# Altium footprint library CONTROLLER-2_BRD2.PcbLib: 38 footprints (part 2 of 3)
Each footprint in its own frame and in the unit in brackets; x right, y up, seen from the top. Pads: shape width x height; smd on the part's side, far side on the other; paste and mask are expansions set on the pad; w line width, h text height; cw(c..) or ccw(c..) is an arc to the next point about the centre after c.
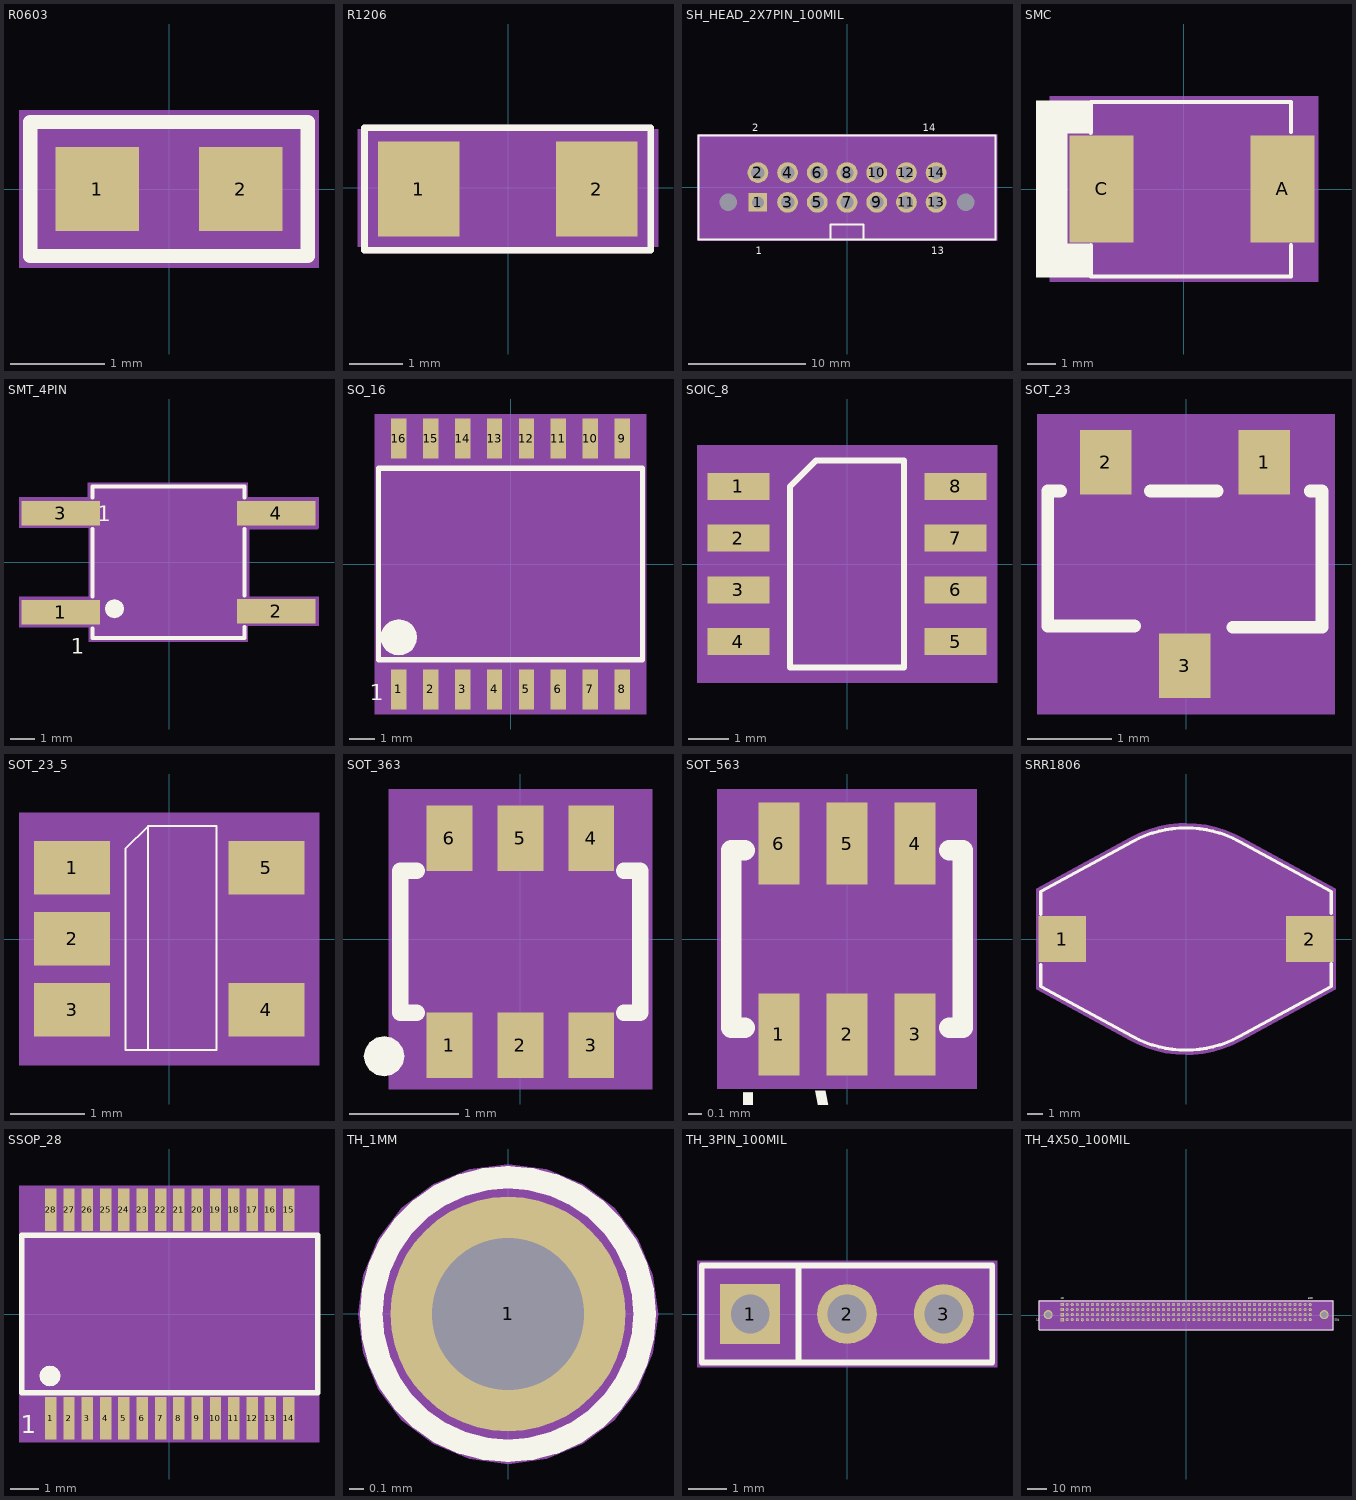
[diagram p1: the footprints below, top view; thin cyan lines are the x and y axes]

## R0603 [mil] "R0603"
pads (2):
  rect 35x35 smd: 1(-30,0) 2(30,0)
Top Overlay:
  lines w6: -58,-28 -58,28 58,28 58,-28 -58,-28
  text ".Designator" at 58,75.33 h25
Mechanical 7:
  region: -62.75,33 -62.75,-33 62.75,-33 62.75,33
Mechanical 15:
  text "2" at 40,0 h25
  text "1" at -20,0 h25
Mechanical 16:
  lines w1: -59,-29 59,-29 59,29 -59,29 -59,-29
3D body: height 150, standoff 0, extent -62.75,-33 62.75,33

## R1206 [mil] "R1206"
pads (2):
  rect 60x70 smd: 1(-65.55,-0.75) 2(65.05,-0.75)
Top Overlay:
  lines w5: -105.25,-45.75 104.75,-45.75 104.75,44.25 -105.25,44.25 -105.25,-45.75
Mechanical 7:
  region: -110.05,-43.25 110.05,-43.25 110.05,43.25 -110.05,43.25
Mechanical 15:
  text "1" at -65.55,9.25 h25
  text "2" at 65.05,9.25 h25
Mechanical 16:
  lines w5: -105.25,-45.75 104.75,-45.75 104.75,44.25 -105.25,44.25 -105.25,-45.75
  text ".Designator" at -31.05,-15.75 h25
3D body: height 150, standoff 0, extent -110.05,-43.25 110.05,43.25

## SH_HEAD_2X7PIN_100MIL [mil] "SH_HEAD_2X7PIN_100MIL"
pads (16):
  rect 62x62 / inner round 62 / far side rect 62x62 hole 40: 1(-300,-50)
  round 70 hole 45: 2(-300,50) 3(-200,-50) 4(-200,50) 5(-100,-50) 6(-100,50) 7(0,-50) 8(0,50) 9(100,-50) 10(100,50) 11(200,-50) 12(200,50) 13(300,-50) 14(300,50)
  round 55 hole 60 unplated: ""(-400,-50) ""(400,-50)
Top Overlay:
  lines w7: -55,-175 -55,-125 55,-125 55,-175 ; -500,-175 500,-175 500,175 -500,175 -500,-175
  text ".Designator" at -72.5,204.67 h25
  text "1" at -306.5,-225.33 h25
  text "2" at -319,190 h25
  text "13" at 283,-225.33 h25
  text "14" at 255.5,190 h25
Mechanical 7:
  region: -505,180 -505,-180 505,-180 505,180
Mechanical 15:
  text "9" at 84,-50 h25
  text "11" at 168,-50 h25
  text "5" at -116,-50 h25
  text "7" at -16,-50 h25
  text "3" at -216,-50 h25
  text "10" at 68,50 h25
  text "6" at -116,50 h25
  text "8" at -16,50 h25
  text "2" at -316,50 h25
  text "4" at -216,50 h25
  text "14" at 268,50 h25
  text "1" at -316,-50 h25
  text "12" at 168,50 h25
  text "13" at 268,-50 h25
Mechanical 16:
  lines w1: -500,-175 500,-175 500,175 -500,175 -500,-175 ; -55,-175 55,-175 55,-125 -55,-125 -55,-175
3D body: height 150, standoff 0, extent -505,-180 505,180

## SMC [mil] "SMC"
pads (2):
  rect 90x150 smd: A(138.5,0.05) C(-115.5,0.05)
Top Overlay:
  dashed: -129.5,124.05 -207.5,124.05 -207.5,-123.95 -130.5,-123.95 -130.5,-76.95 -163.5,-76.95 -163.5,78.05 -129.5,78.05
  lines w6: -130.5,-78.95 -130.5,-122.95 150.5,-122.95 150.5,-78.95 ; -130.5,79.05 -130.5,122.05 150.5,122.05 150.5,80.05
Mechanical 7:
  region: -188.5,130.35 188.5,130.35 188.5,-130.35 -188.5,-130.35
Mechanical 15:
  text "C" at -125.5,0.05 h25
  text "A" at 128.5,0.05 h25
Mechanical 16:
  dashed: -130.5,123.05 -130.5,-122.95 -178.5,-122.95 -178.5,123.05
  lines w1: -130,-123.95 151,-123.95 151,122.05 -130,122.05 -130,-123.95
  text ".Designator" at -7,-24.55 h25
3D body: height 150, standoff 0, extent -188.5,-130.35 188.5,130.35

## SMT_4PIN [mm] "SMT_4PIN"
pads (4):
  rect 3.2x1 smd: 1(-4.425,-2.05) 2(4.375,-2) 3(-4.425,2) 4(4.375,2)
Top Overlay:
  dashed: -1.84,-1.9 -1.869,-1.753 -1.953,-1.628 -2.078,-1.544 -2.225,-1.515 -2.372,-1.544 -2.414,-1.572 -2.497,-1.628 -2.581,-1.753 -2.61,-1.9 -2.581,-2.047 -2.497,-2.172 -2.414,-2.228 -2.372,-2.256 -2.225,-2.285 -2.078,-2.256 -1.953,-2.172 -1.869,-2.047
  lines w0.16: -3.125,-2.7 -3.125,-3.1 3.075,-3.1 3.075,-2.65 ; -3.125,-1.4 -3.125,1.35 ; -3.125,2.65 -3.125,3.1 3.075,3.1 3.075,2.65 ; 3.075,-1.35 3.075,1.35
  text "1" at -2.928,1.683 h0.64
  text "1" at -4.017,-3.744 h0.64
Mechanical 7:
  region: 6.125,-2.6 6.125,-1.4 3.325,-1.4 3.275,-1.4 3.275,-1.35 3.275,1.35 6.075,1.35 6.125,1.4 6.125,2.65 3.225,2.65 3.225,3.25 -3.325,3.25 -3.325,2.65 -6.125,2.65 -6.125,1.4 -3.275,1.4 -3.275,-1.4 -6.125,-1.4 -6.125,-2.65 -3.275,-2.65 -3.275,-3.25 3.225,-3.25 3.225,-2.6
Mechanical 15:
  text "2" at 4.121,-2 h0.64
  text "1" at -4.679,-2.05 h0.64
  text "4" at 4.121,2 h0.64
  text "3" at -4.679,2 h0.64
Mechanical 16:
  dashed: -1.923,-1.9 -1.946,-1.784 -2.011,-1.686 -2.109,-1.621 -2.225,-1.598 -2.341,-1.621 -2.373,-1.643 -2.439,-1.686 -2.504,-1.784 -2.527,-1.9 -2.504,-2.016 -2.439,-2.114 -2.373,-2.157 -2.341,-2.179 -2.225,-2.202 -2.109,-2.179 -2.011,-2.114 -1.946,-2.016
  lines w0.025: -3.125,-3.1 3.075,-3.1 3.075,3.1 -3.125,3.1 -3.125,-3.1
  text ".Designator" at -1.143,-0.516 h0.64
  text "1" at -5.257,-2.167 h0.64
3D body: height 3.81, standoff 0, extent -6.125,-3.25 6.125,3.25

## SO_16 [mil] "SO_16"
pads (16):
  rect 24x63 smd: 1(-175,-196.5) 2(-125,-196.5) 3(-75,-196.5) 4(-25,-196.5) 5(25,-196.5) 6(75,-196.5) 7(125,-196.5) 8(175,-196.5) 9(175,196.5) 10(125,196.5) 11(75,196.5) 12(25,196.5) 13(-25,196.5) 14(-75,196.5) 15(-125,196.5) 16(-175,196.5)
Top Overlay:
  dashed: -146.87,-115 -147.83,-107.72 -150.64,-100.93 -155.11,-95.11 -160.93,-90.64 -167.72,-87.83 -175,-86.87 -182.28,-87.83 -189.07,-90.64 -194.89,-95.11 -199.36,-100.93 -202.17,-107.72 -203.13,-115 -202.17,-122.28 -199.36,-129.07 -194.89,-134.89 -189.07,-139.36 -182.28,-142.17 -175,-143.13 -167.72,-142.17 -160.93,-139.36 -155.11,-134.89 -150.64,-129.07 -147.83,-122.28
  lines w8: -207,-150 207,-150 207,150 -207,150 -207,-150
  text "1" at -220.4,-213.5 h25
Mechanical 7:
  region: -212.5,-235 -212.5,235 212.5,235 212.5,-235
Mechanical 15:
  text "3" at -85,-196.5 h25
  text "2" at -135,-196.5 h25
  text "1" at -185,-196.5 h25
  text "10" at 105,196.5 h25
  text "5" at 15,-196.5 h25
  text "6" at 65,-196.5 h25
  text "11" at 55,196.5 h25
  text "7" at 115,-196.5 h25
  text "9" at 165,196.5 h25
  text "4" at -35,-196.5 h25
  text "12" at 5,196.5 h25
  text "8" at 165,-196.5 h25
  text "16" at -195,196.5 h25
  text "15" at -145,196.5 h25
  text "14" at -95,196.5 h25
  text "13" at -45,196.5 h25
Mechanical 16:
  dashed: -152.37,-116 -154.09,-107.34 -158.99,-99.99 -166.34,-95.09 -175,-93.37 -183.66,-95.09 -186.12,-96.73 -191.01,-99.99 -195.91,-107.34 -197.63,-116 -195.91,-124.66 -191.01,-132.01 -186.12,-135.27 -183.66,-136.91 -175,-138.63 -166.34,-136.91 -158.99,-132.01 -154.09,-124.66
  lines w1: -207,-150 207,-150 207,150 -207,150 -207,-150
  text ".Designator" at -60,-19.67 h25
3D body: height 150, standoff 0, extent -212.5,-235 212.5,235

## SOIC_8 [mil] "SOIC_8"
pads (8):
  rect 60x26 smd: 1(-105,75) 2(-105,25) 3(-105,-25) 4(-105,-75) 5(105,-75) 6(105,-25) 7(105,25) 8(105,75)
Top Overlay:
  lines w6: -55,-100 -55,75 -30,100 55,100 55,-100 -55,-100
Mechanical 7:
  region: -145,115 -145,-115 145,-115 145,115
Mechanical 15:
  text "5" at 95,-75 h25
  text "2" at -115,25 h25
  text "3" at -115,-25 h25
  text "7" at 95,25 h25
  text "1" at -115,75 h25
  text "6" at 95,-25 h25
  text "4" at -115,-75 h25
  text "8" at 95,75 h25
Mechanical 16:
  lines w1: -55,-100 55,-100 55,100 -30,100 -55,75 -55,-100
  text ".Designator" at 25,-55 h25
3D body: height 150, standoff 0, extent -145,-115 145,115

## SOT_23 [mil] "SOT_23"
pads (3):
  rect 24x30 smd: 1(36.5,47.5) 2(-37.5,47.5) 3(-0.5,-47.5)
Top Overlay:
  lines w6: -58.5,34 -64.5,34 -64.5,-29 -24,-29 ; -16.5,34 14.5,34 ; 22,-29.5 63.5,-29.5 63.5,34 58,34
Mechanical 7:
  region: -69.5,-70 -69.5,70 69.5,70 69.5,-70
Mechanical 15:
  text "2" at -49.9,47.5 h25
  text "1" at 24.1,47.5 h25
  text "3" at -12.9,-47.5 h25
Mechanical 16:
  lines w1: -60.5,-21.5 59.5,-21.5 59.5,21.5 -60.5,21.5 -60.5,20 -60.5,-21.5
  text ".Designator" at -45,-16.7 h25
3D body: height 150, standoff 0, extent -69.5,-70 69.5,70

## SOT_23_5 [mil] "SOT_23_5"
pads (5):
  rect 40x28 smd: 1(-51,37.5) 2(-51,0.1) 3(-51,-37.3) 4(51.3,-37.3) 5(51.3,37.5)
Top Overlay:
  lines w1: -11,-58.5 -11,59.5 ; -11,59.5 -23,47.5 -23,-58.5 25,-58.5 25,59.5 -11,59.5
Mechanical 7:
  region: -79,66.5 -79,-66.5 79,-66.5 79,66.5
Mechanical 15:
  text "1" at -41,37.5 h25
  text "4" at 61.3,-37.3 h25
  text "2" at -41,0.1 h25
  text "5" at 61.3,37.5 h25
  text "3" at -41,-37.3 h25
Mechanical 16:
  lines w1: -23,-58.5 -23,46.5 -23,47.5 -11,59.5 25,59.5 25,-58.5 -23,-58.5
  text ".Designator" at -11.33,36.5 h25
3D body: height 150, standoff 0, extent -79,-66.5 79,66.5

## SOT_363 [mm] "SOT_363"
pads (6):
  rect 0.42x0.6 smd: 1(-0.65,-0.975) 2(0,-0.975) 3(0.65,-0.975) 4(0.65,0.925) 5(0,0.925) 6(-0.65,0.925)
Top Overlay:
  dashed: -1.066,-1.075 -1.08,-1.005 -1.12,-0.945 -1.18,-0.905 -1.25,-0.891 -1.32,-0.905 -1.34,-0.919 -1.38,-0.945 -1.42,-1.005 -1.434,-1.075 -1.42,-1.145 -1.38,-1.205 -1.34,-1.231 -1.32,-1.245 -1.25,-1.259 -1.18,-1.245 -1.12,-1.205 -1.08,-1.145
  lines w0.15: -0.95,-0.675 -1.1,-0.675 -1.1,0.625 -0.95,0.625 ; 0.95,-0.675 1.1,-0.675 1.1,0.625 0.95,0.625
Mechanical 7:
  region: 1.206,-1.375 1.206,1.375 -1.206,1.375 -1.206,-1.375
Mechanical 15:
  text "6" at -0.833,0.925 h0.64
  text "3" at 0.467,-0.975 h0.64
  text "5" at -0.183,0.925 h0.64
  text "2" at -0.183,-0.975 h0.64
  text "1" at -0.833,-0.975 h0.64
  text "4" at 0.467,0.925 h0.64
Mechanical 16:
  dashed: -0.446,-0.375 -0.462,-0.297 -0.506,-0.231 -0.572,-0.187 -0.65,-0.171 -0.728,-0.187 -0.75,-0.201 -0.794,-0.231 -0.838,-0.297 -0.854,-0.375 -0.838,-0.453 -0.794,-0.519 -0.75,-0.549 -0.728,-0.563 -0.65,-0.579 -0.572,-0.563 -0.506,-0.519 -0.462,-0.453
  lines w0.025: -1.075,-0.675 1.075,-0.675 1.075,0.625 -1.075,0.625 -1.075,-0.675
  text ".Designator" at -0.68,-0.309 h0.64
3D body: height 3.81, standoff 0, extent -1.206,-1.375 1.206,1.375

## SOT_563 [mm] "SOT_563"
pads (6):
  rect 0.3x0.6 smd: 1(-0.5,-0.7) 2(0,-0.7) 3(0.5,-0.7) 4(0.5,0.7) 5(0,0.7) 6(-0.5,0.7)
Top Overlay:
  lines w0.15: -0.75,-0.65 -0.85,-0.65 -0.85,0.65 -0.75,0.65 ; 0.75,-0.65 0.85,-0.65 0.85,0.65 0.75,0.65
  text "1" at -0.762,-1.016 h0.64
  text ".Designator" at -1.714,1.516 h0.64
Mechanical 7:
  region: 0.95,-1.1 0.95,1.1 -0.95,1.1 -0.95,-1.1
Mechanical 15:
  text "1" at -0.5,-0.517 h0.64
  text "4" at 0.5,0.883 h0.64
  text "5" at 0,0.883 h0.64
  text "3" at 0.5,-0.517 h0.64
  text "6" at -0.5,0.883 h0.64
  text "2" at 0,-0.517 h0.64
Mechanical 16:
  dashed: -0.5,-0.604 -0.422,-0.588 -0.356,-0.544 -0.312,-0.478 -0.296,-0.4 -0.312,-0.322 -0.326,-0.3 -0.356,-0.256 -0.422,-0.212 -0.5,-0.196 -0.578,-0.212 -0.644,-0.256 -0.674,-0.3 -0.688,-0.322 -0.704,-0.4 -0.688,-0.478 -0.644,-0.544 -0.578,-0.588
  lines w0.025: -0.85,-0.65 0.85,-0.65 0.85,0.65 -0.85,0.65 -0.85,-0.65
3D body: height 3.81, standoff 0, extent -0.95,-1.1 0.95,1.1

## SRR1806 [mm] "SRR1806"
pads (2):
  rect 3x2.9 smd: 1(-7.8,0) 2(7.8,0)
Top Overlay:
  lines w0.2: -9.15,-1.6 -9.15,-3 -3.35,-6.15 ccw(c0,0.018) 3.35,-6.15 9.15,-3 9.15,-1.55 ; -9.15,1.55 -9.15,3 -3.35,6.15 cw(c0,-0.018) 3.35,6.15 9.15,3 9.15,1.6
  text ".Designator" at 10.16,1.016 h0.64
Mechanical 7:
  region: 0.051,-7.3 0,-7.3 -0.639,-7.272 -1.272,-7.189 -1.896,-7.05 -2.506,-6.858 -3.096,-6.614 -3.493,-6.414 -9.45,-3.179 -9.45,3.179 -3.493,6.414 -2.919,6.694 -2.323,6.922 -1.709,7.099 -1.083,7.22 -0.448,7.287 -0.121,7.3 0,7.3 0.639,7.272 1.272,7.189 1.896,7.05 2.506,6.858 3.096,6.614 3.493,6.414 9.45,3.179 9.45,-3.179 3.493,-6.414 2.92,-6.693 2.324,-6.922 1.711,-7.098 1.085,-7.22 0.451,-7.286
Mechanical 15:
  text "1" at -7.8,0.254 h0.64
  text "2" at 7.8,0.254 h0.64
Mechanical 16:
  lines w0.025: -9.15,-3 -9.15,3 -3.35,6.15 cw(c0,-0.018) -0.118,7 0,7 cw(c0,-0.026) 3.35,6.15 9.15,3 9.15,-3 3.35,-6.15 cw(c0.003,0.012) 0.05,-7 0,-7 cw(c0,0.026) -3.35,-6.15 -9.15,-3
3D body: height 3.81, standoff 0, extent -9.45,-7.3 9.45,7.3

## SSOP_28 [mil] "SSOP_28"
pads (28):
  rect 16x60 smd: 1(-165.35,-145.67) 2(-139.76,-145.67) 3(-114.18,-145.67) 4(-88.59,-145.67) 5(-63,-145.67) 6(-37.41,-145.67) 7(-11.81,-145.67) 8(13.78,-145.67) 9(39.37,-145.67) 10(64.96,-145.67) 11(90.56,-145.67) 12(116.14,-145.67) 13(141.73,-145.67) 14(167.32,-145.67) 15(167.32,145.67) 16(141.73,145.67) 17(116.14,145.67) 18(90.56,145.67) 19(64.96,145.67) 20(39.37,145.67) 21(13.78,145.67) 22(-11.81,145.67) 23(-37.41,145.67) 24(-63,145.67) 25(-88.59,145.67) 26(-114.18,145.67) 27(-139.76,145.67) 28(-165.35,145.67)
Top Overlay:
  dashed: -151.87,-86.62 -152.97,-81.08 -156.11,-76.38 -160.8,-73.24 -166.34,-72.14 -171.88,-73.24 -173.45,-74.3 -176.57,-76.38 -179.71,-81.08 -180.81,-86.62 -179.71,-92.15 -176.57,-96.85 -173.45,-98.93 -171.88,-99.99 -166.34,-101.09 -160.8,-99.99 -156.11,-96.85 -152.97,-92.15
  lines w7.87: -205.71,-110.24 207.68,-110.24 207.68,110.24 -205.71,110.24 -205.71,-110.24
  text "1" at -206.93,-166.67 h25
Mechanical 7:
  region: 209.65,-179.13 209.65,179.13 -209.65,179.13 -209.65,-179.13
Mechanical 15:
  text "17" at 100.14,145.67 h25
  text "18" at 74.56,145.67 h25
  text "10" at 48.96,-145.67 h25
  text "7" at -19.82,-145.67 h25
  text "3" at -122.18,-145.67 h25
  text "26" at -130.18,145.67 h25
  text "25" at -104.59,145.67 h25
  text "12" at 100.14,-145.67 h25
  text "4" at -96.59,-145.67 h25
  text "22" at -27.82,145.67 h25
  text "23" at -53.41,145.67 h25
  text "27" at -155.76,145.67 h25
  text "2" at -147.76,-145.67 h25
  text "6" at -45.41,-145.67 h25
  text "11" at 74.56,-145.67 h25
  text "13" at 125.73,-145.67 h25
  text "24" at -79,145.67 h25
  text "21" at -2.22,145.67 h25
  text "16" at 125.73,145.67 h25
  text "28" at -181.35,145.67 h25
  text "9" at 31.37,-145.67 h25
  text "5" at -71,-145.67 h25
  text "1" at -173.35,-145.67 h25
  text "8" at 5.78,-145.67 h25
  text "19" at 48.96,145.67 h25
  text "20" at 23.37,145.67 h25
  text "15" at 151.32,145.67 h25
  text "14" at 151.32,-145.67 h25
Mechanical 16:
  dashed: -153.65,-86.62 -154.61,-81.76 -157.36,-77.64 -161.48,-74.89 -166.34,-73.92 -171.2,-74.89 -172.58,-75.81 -175.32,-77.64 -178.07,-81.76 -179.04,-86.62 -178.07,-91.47 -175.32,-95.59 -172.58,-97.42 -171.2,-98.34 -166.34,-99.31 -161.48,-98.34 -157.36,-95.59 -154.61,-91.47
  lines w1: -205.71,-110.24 207.68,-110.24 207.68,110.24 -205.71,110.24 -205.71,-110.24
  text ".Designator" at -53.02,-20 h25
3D body: height 150, standoff 0, extent -209.65,-179.13 209.65,179.13

## TH_1MM [mil] "TH_1MM"
pads (1):
  round 62 hole 40: 1(0,0)
Top Overlay:
  lines w6: 36.05,0 ccw(c0,0) 36.05,0
  text ".Designator" at -117.5,29.67 h25
Mechanical 7:
  region: 39.54,0 38.2,10.23 34.25,19.77 27.96,27.96 19.77,34.25 10.23,38.2 0,39.54 -10.24,38.2 -19.77,34.25 -27.96,27.96 -34.25,19.77 -38.2,10.23 -39.54,0 -38.2,-10.23 -34.25,-19.77 -27.96,-27.96 -19.77,-34.25 -10.24,-38.2 0,-39.54 10.23,-38.2 19.77,-34.25 27.96,-27.96 34.25,-19.77 38.2,-10.23
Mechanical 15:
  text "1" at -10,0 h25
Mechanical 16:
  lines w1: 34.2,0 ccw(c0,0) 34.2,0
3D body: height 150, standoff 0, extent -39.54,-39.54 39.54,39.54

## TH_3PIN_100MIL [mil] "TH_3PIN_100MIL"
pads (3):
  rect 62x62 / inner round 62 / far side rect 62x62 hole 40: 1(-100,0)
  round 62 hole 40: 2(0,0) 3(100,0)
Top Overlay:
  lines w6: -50,-50 -50,50 ; -150,-50 150,-50 150,50 -150,50 -150,-50
  text ".Designator" at -60,75 h25
Mechanical 7:
  region: -155,55 -155,-55 155,-55 155,55
Mechanical 15:
  text "1" at -116,0 h25
  text "2" at -16,0 h25
  text "3" at 84,0 h25
Mechanical 16:
  lines w1: -50,-50 -50,50 ; -150,-50 150,-50 150,50 -150,50 -150,-50
3D body: height 150, standoff 0, extent -155,-55 155,55

## TH_4X50_100MIL [mil] "TH_4X50_100MIL"
pads (202):
  rect 65x65 hole 43: 1A(-2447.5,-90) 1B(-2447.5,10) 1C(-2447.5,110) 1D(-2447.5,210)
  round 60 hole 39: 2A(-2347.5,-90) 2B(-2347.5,10) 2C(-2347.5,110) 2D(-2347.5,210) 3A(-2247.5,-90) 3B(-2247.5,10) 3C(-2247.5,110) 3D(-2247.5,210) 4A(-2147.5,-90) 4B(-2147.5,10) 4C(-2147.5,110) 4D(-2147.5,210) 6A(-1947.5,-90) 6B(-1947.5,10) 6C(-1947.5,110) 6D(-1947.5,210) 7A(-1847.5,-90) 7B(-1847.5,10) 7C(-1847.5,110) 7D(-1847.5,210) 8A(-1747.5,-90) 8B(-1747.5,10) 8C(-1747.5,110) 8D(-1747.5,210) 9A(-1647.5,-90) 9B(-1647.5,10) 9C(-1647.5,110) 9D(-1647.5,210) 10A(-1547.5,-90) 10B(-1547.5,10) 10C(-1547.5,110) 10D(-1547.5,210) 11A(-1447.5,-90) 11B(-1447.5,10) 11C(-1447.5,110) 11D(-1447.5,210) 12A(-1347.5,-90) 12B(-1347.5,10) 12C(-1347.5,110) 12D(-1347.5,210) 13A(-1247.5,-90) 13B(-1247.5,10) 13C(-1247.5,110) 13D(-1247.5,210) 14A(-1147.5,-90) 14B(-1147.5,10) 14C(-1147.5,110) 14D(-1147.5,210) 15A(-1047.5,-90) 15B(-1047.5,10) 15C(-1047.5,110) 15D(-1047.5,210) 16A(-947.5,-90) 16B(-947.5,10) 16C(-947.5,110) 16D(-947.5,210) 17A(-847.5,-90) 17B(-847.5,10) 17C(-847.5,110) 17D(-847.5,210) 18A(-747.5,-90) 18B(-747.5,10) 18C(-747.5,110) 18D(-747.5,210) 19A(-647.5,-90) 19B(-647.5,10) 19C(-647.5,110) 19D(-647.5,210) 20A(-547.5,-90) 20B(-547.5,10) 20C(-547.5,110) 20D(-547.5,210) 21A(-447.5,-90) 21B(-447.5,10) 21C(-447.5,110) 21D(-447.5,210) 22A(-347.5,-90) 22B(-347.5,10) 22C(-347.5,110) 22D(-347.5,210) 23A(-247.5,-90) 23B(-247.5,10) 23C(-247.5,110) 23D(-247.5,210) 24A(-147.5,-90) 24B(-147.5,10) 24C(-147.5,110) 24D(-147.5,210) 25A(-47.5,-90) 25B(-47.5,10) 25C(-47.5,110) 25D(-47.5,210) 26A(52.5,-90) 26B(52.5,10) 26C(52.5,110) 26D(52.5,210) 27A(152.5,-90) 27B(152.5,10) 27C(152.5,110) 27D(152.5,210) 28A(252.5,-90) 28B(252.5,10) 28C(252.5,110) 28D(252.5,210) 29A(352.5,-90) 29B(352.5,10) 29C(352.5,110) 29D(352.5,210) 30A(452.5,-90) 30B(452.5,10) 30C(452.5,110) 30D(452.5,210) 31A(552.5,-90) 31B(552.5,10) 31C(552.5,110) 31D(552.5,210) 32A(652.5,-90) 32B(652.5,10) 32C(652.5,110) 32D(652.5,210) 33A(752.5,-90) 33B(752.5,10) 33C(752.5,110) 33D(752.5,210) 34A(852.5,-90) 34B(852.5,10) 34C(852.5,110) 34D(852.5,210) 35A(952.5,-90) 35B(952.5,10) 35C(952.5,110) 35D(952.5,210) 36A(1052.5,-90) 36B(1052.5,10) 36C(1052.5,110) 36D(1052.5,210) 37A(1152.5,-90) 37B(1152.5,10) 37C(1152.5,110) 37D(1152.5,210) 38A(1252.5,-90) 38B(1252.5,10) 38C(1252.5,110) 38D(1252.5,210) 39A(1352.5,-90) 39B(1352.5,10) 39C(1352.5,110) 39D(1352.5,210) 40A(1452.5,-90) 40B(1452.5,10) 40C(1452.5,110) 40D(1452.5,210) 41A(1552.5,-90) 41B(1552.5,10) 41C(1552.5,110) 41D(1552.5,210) 42A(1652.5,-90) 42B(1652.5,10) 42C(1652.5,110) 42D(1652.5,210) 43A(1752.5,-90) 43B(1752.5,10) 43C(1752.5,110) 43D(1752.5,210) 44A(1852.5,-90) 44B(1852.5,10) 44C(1852.5,110) 44D(1852.5,210) 45A(1952.5,-90) 45B(1952.5,10) 45C(1952.5,110) 45D(1952.5,210) 46A(2052.5,-90) 46B(2052.5,10) 46C(2052.5,110) 46D(2052.5,210) 47A(2152.5,-90) 47B(2152.5,10) 47C(2152.5,110) 47D(2152.5,210) 48A(2252.5,-90) 48B(2252.5,10) 48C(2252.5,110) 48D(2252.5,210) 49A(2352.5,-90) 49B(2352.5,10) 49C(2352.5,110) 49D(2352.5,210) 50A(2452.5,-90) 50B(2452.5,10) 50C(2452.5,110) 50D(2452.5,210)
  round 62 hole 40: 5A(-2047.5,-90) 5B(-2047.5,10) 5C(-2047.5,110) 5D(-2047.5,210)
  round 180 hole 126: ""(-2722.5,10) ""(2727.5,10)
Top Overlay:
  lines w9: -2897.5,-290 2902.5,-290 2902.5,285 -2897.5,285 -2897.5,-290
  text ".Designator" at -1211.28,311.18 h25
  text "1A" at -2963.28,-109.15 h25
  text "1D" at -2472.5,310 h25
  text "50D" at 2416.22,310.85 h25
  text "50A" at 2936.22,-114.15 h25
Mechanical 7:
  region: -2902.5,290 -2902.5,-290 2902.5,-290 2902.5,290
Mechanical 15:
  text "32A" at 615.3,-90 h25
  text "50D" at 2415.3,210 h25
  text "49D" at 2315.3,210 h25
  text "48D" at 2215.3,210 h25
  text "47D" at 2115.3,210 h25
  text "46D" at 2015.3,210 h25
  text "45D" at 1915.3,210 h25
  text "13A" at -1284.7,-90 h25
  text "11A" at -1484.7,-90 h25
  text "10A" at -1584.7,-90 h25
  text "14A" at -1184.7,-90 h25
  text "15A" at -1084.7,-90 h25
  text "12A" at -1384.7,-90 h25
  text "15C" at -1084.7,110 h25
  text "11C" at -1484.7,110 h25
  text "18C" at -784.7,110 h25
  text "17C" at -884.7,110 h25
  text "16C" at -984.7,110 h25
  text "14C" at -1184.7,110 h25
  text "12C" at -1384.7,110 h25
  text "13C" at -1284.7,110 h25
  text "6B" at -1972.3,10 h25
  text "38D" at 1215.3,210 h25
  text "39D" at 1315.3,210 h25
  text "40D" at 1415.3,210 h25
  text "41D" at 1515.3,210 h25
  text "42D" at 1615.3,210 h25
  text "15B" at -1084.7,10 h25
  text "18B" at -784.7,10 h25
  text "17B" at -884.7,10 h25
  text "16B" at -984.7,10 h25
  text "28A" at 215.3,-90 h25
  text "20B" at -584.7,10 h25
  text "25A" at -84.7,-90 h25
  text "19B" at -684.7,10 h25
  text "50C" at 2415.3,110 h25
  text "49C" at 2315.3,110 h25
  text "48C" at 2215.3,110 h25
  text "47C" at 2115.3,110 h25
  text "46C" at 2015.3,110 h25
  text "45C" at 1915.3,110 h25
  text "26A" at 15.3,-90 h25
  text "27A" at 115.3,-90 h25
  text "44C" at 1815.3,110 h25
  text "43C" at 1715.3,110 h25
  text "41B" at 1515.3,10 h25
  text "13D" at -1284.7,210 h25
  text "33B" at 715.3,10 h25
  text "17D" at -884.7,210 h25
  text "44B" at 1815.3,10 h25
  text "16D" at -984.7,210 h25
  text "30B" at 415.3,10 h25
  text "19D" at -684.7,210 h25
  text "31B" at 515.3,10 h25
  text "42B" at 1615.3,10 h25
  text "7D" at -1872.3,210 h25
  text "44D" at 1815.3,210 h25
  text "43D" at 1715.3,210 h25
  text "10D" at -1584.7,210 h25
  text "35B" at 915.3,10 h25
  text "39B" at 1315.3,10 h25
  text "34B" at 815.3,10 h25
  text "6D" at -1972.3,210 h25
  text "43B" at 1715.3,10 h25
  text "12D" at -1384.7,210 h25
  text "36B" at 1015.3,10 h25
  text "50B" at 2415.3,10 h25
  text "15D" at -1084.7,210 h25
  text "40C" at 1415.3,110 h25
  text "49B" at 2315.3,10 h25
  text "48B" at 2215.3,10 h25
  text "33C" at 715.3,110 h25
  text "47B" at 2115.3,10 h25
  text "14D" at -1184.7,210 h25
  text "39C" at 1315.3,110 h25
  text "24C" at -184.7,110 h25
  text "21D" at -484.7,210 h25
  text "20C" at -584.7,110 h25
  text "32C" at 615.3,110 h25
  text "36C" at 1015.3,110 h25
  text "37B" at 1115.3,10 h25
  text "20D" at -584.7,210 h25
  text "27C" at 115.3,110 h25
  text "28C" at 215.3,110 h25
  text "9D" at -1672.3,210 h25
  text "21C" at -484.7,110 h25
  text "41C" at 1515.3,110 h25
  text "37C" at 1115.3,110 h25
  text "30C" at 415.3,110 h25
  text "24D" at -184.7,210 h25
  text "38C" at 1215.3,110 h25
  text "28D" at 215.3,210 h25
  text "42C" at 1615.3,110 h25
  text "29C" at 315.3,110 h25
  text "18D" at -784.7,210 h25
  text "31C" at 515.3,110 h25
  text "32D" at 615.3,210 h25
  text "22D" at -384.7,210 h25
  text "8D" at -1772.3,210 h25
  text "25C" at -84.7,110 h25
  text "22C" at -384.7,110 h25
  text "31A" at 515.3,-90 h25
  text "35C" at 915.3,110 h25
  text "27B" at 115.3,10 h25
  text "32B" at 615.3,10 h25
  text "34C" at 815.3,110 h25
  text "25B" at -84.7,10 h25
  text "38B" at 1215.3,10 h25
  text "23C" at -284.7,110 h25
  text "28B" at 215.3,10 h25
  text "19C" at -684.7,110 h25
  text "26C" at 15.3,110 h25
  text "40B" at 1415.3,10 h25
  text "29D" at 315.3,210 h25
  text "29B" at 315.3,10 h25
  text "11D" at -1484.7,210 h25
  text "36D" at 1015.3,210 h25
  text "26D" at 15.3,210 h25
  text "1D" at -2472.3,210 h25
  text "1B" at -2472.3,10 h25
  text "1C" at -2472.3,110 h25
  text "1A" at -2472.3,-90 h25
  text "25D" at -84.7,210 h25
  text "35D" at 915.3,210 h25
  text "22B" at -384.7,10 h25
  text "10B" at -1584.7,10 h25
  text "23D" at -284.7,210 h25
  text "13B" at -1284.7,10 h25
  text "8B" at -1772.3,10 h25
  text "30D" at 415.3,210 h25
  text "9B" at -1672.3,10 h25
  text "31D" at 515.3,210 h25
  text "12B" at -1384.7,10 h25
  text "34D" at 815.3,210 h25
  text "7B" at -1872.3,10 h25
  text "14B" at -1184.7,10 h25
  text "11B" at -1484.7,10 h25
  text "37D" at 1115.3,210 h25
  text "23B" at -284.7,10 h25
  text "3D" at -2272.3,210 h25
  text "3C" at -2272.3,110 h25
  text "3A" at -2272.3,-90 h25
  text "3B" at -2272.3,10 h25
  text "45B" at 1915.3,10 h25
  text "26B" at 15.3,10 h25
  text "21B" at -484.7,10 h25
  text "46B" at 2015.3,10 h25
  text "24A" at -184.7,-90 h25
  text "24B" at -184.7,10 h25
  text "27D" at 115.3,210 h25
  text "38A" at 1215.3,-90 h25
  text "33D" at 715.3,210 h25
  text "36A" at 1015.3,-90 h25
  text "35A" at 915.3,-90 h25
  text "30A" at 415.3,-90 h25
  text "17A" at -884.7,-90 h25
  text "22A" at -384.7,-90 h25
  text "33A" at 715.3,-90 h25
  text "23A" at -284.7,-90 h25
  text "20A" at -584.7,-90 h25
  text "19A" at -684.7,-90 h25
  text "16A" at -984.7,-90 h25
  text "18A" at -784.7,-90 h25
  text "34A" at 815.3,-90 h25
  text "21A" at -484.7,-90 h25
  text "29A" at 315.3,-90 h25
  text "37A" at 1115.3,-90 h25
  text "6A" at -1972.3,-90 h25
  text "5D" at -2072.3,210 h25
  text "5B" at -2072.3,10 h25
  text "5C" at -2072.3,110 h25
  text "5A" at -2072.3,-90 h25
  text "9A" at -1672.3,-90 h25
  text "8A" at -1772.3,-90 h25
  text "7A" at -1872.3,-90 h25
  text "4D" at -2172.3,210 h25
  text "4B" at -2172.3,10 h25
  text "4C" at -2172.3,110 h25
  text "4A" at -2172.3,-90 h25
  text "2D" at -2372.3,210 h25
  text "2C" at -2372.3,110 h25
  text "2B" at -2372.3,10 h25
  text "2A" at -2372.3,-90 h25
  text "9C" at -1672.3,110 h25
  text "8C" at -1772.3,110 h25
  text "50A" at 2415.3,-90 h25
  text "6C" at -1972.3,110 h25
  text "49A" at 2315.3,-90 h25
  text "48A" at 2215.3,-90 h25
  text "47A" at 2115.3,-90 h25
  text "7C" at -1872.3,110 h25
  text "46A" at 2015.3,-90 h25
  text "45A" at 1915.3,-90 h25
  text "44A" at 1815.3,-90 h25
  text "43A" at 1715.3,-90 h25
  text "42A" at 1615.3,-90 h25
  text "41A" at 1515.3,-90 h25
  text "40A" at 1415.3,-90 h25
  text "39A" at 1315.3,-90 h25
  text "10C" at -1584.7,110 h25
Mechanical 16:
  lines w1: -2897.5,-290 2902.5,-290 2902.5,285 -2897.5,285 -2897.5,-290
3D body: height 150, standoff 0, extent -2902.5,-290 2902.5,290